# EAGLE library part USR-WIFI232-D2 (library DECADE-libraries20151104)
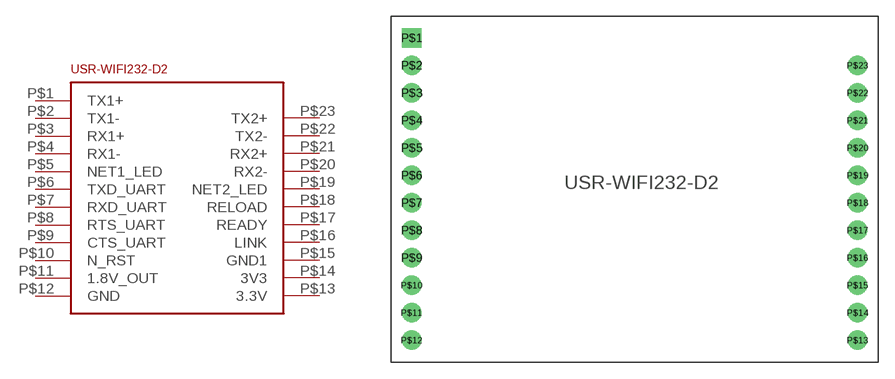
[diagram p120: symbol with the pads of USR-WIFI232-D2; footprint USR-WIFI232-D2]

Designator prefix -

## USR-WIFI232-D2  [USR-WIFI232-D2]
P$1  TX1+
P$2  TX1-
P$3  RX1+
P$4  RX1-
P$5  NET1_LED
P$6  TXD_UART
P$7  RXD_UART
P$8  RTS_UART
P$9  CTS_UART
P$10  N_RST
P$11  1.8V_OUT
P$12  GND
P$13  3.3V
P$14  3V3
P$15  GND1
P$16  LINK
P$17  READY
P$18  RELOAD
P$19  NET2_LED
P$20  RX2-
P$21  RX2+
P$22  TX2-
P$23  TX2+

## Footprint USR-WIFI232-D2 (pad centres in mm)
drill 1.2 square: P$1 1.905,0
drill 1.2: P$2 1.905,-2.54; P$3 1.905,-5.08; P$4 1.905,-7.62; P$5 1.905,-10.16; P$6 1.905,-12.7; P$7 1.905,-15.24; P$8 1.905,-17.78; P$9 1.905,-20.32; P$10 1.905,-22.86; P$11 1.905,-25.4; P$12 1.905,-27.94; P$13 43.095,-27.94; P$14 43.095,-25.4; P$15 43.095,-22.86; P$16 43.095,-20.32; P$17 43.095,-17.78; P$18 43.095,-15.24; P$19 43.095,-12.7; P$20 43.095,-10.16; P$21 43.095,-7.62; P$22 43.095,-5.08; P$23 43.095,-2.54